# EAGLE library part FDMS8050 (library FDMS8050)
FDMS8050 30 V N-Channel PowerTrench® MOSFET
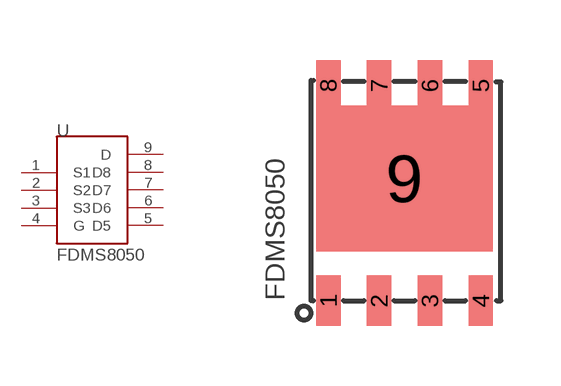
[diagram p0: symbol with the pads of FDMS8050; footprint FDMS8050]

Designator prefix -

## FDMS8050  [FDMS8050]
1  S1
2  S2
3  S3
4  G
5  D5
6  D6
7  D7
8  D8
9  D

## Footprint FDMS8050 (pad centres in mm)
FDMD8050 PQFN
smd 0.61 x 1.27: 1 -1.905,0; 2 -0.635,0; 3 0.635,0; 4 1.905,0; 5 1.905,5.39; 6 0.635,5.39; 7 -0.635,5.39; 8 -1.905,5.39
smd 4.42 x 3.65: 9 0,3.06